# Altium footprint library SamacSys.PcbLib: 36 footprints (part 1 of 3)
Each footprint in its own frame and in the unit in brackets; x right, y up, seen from the top. Pads: shape width x height; smd on the part's side, far side on the other; paste and mask are expansions set on the pad; w line width, h text height; cw(c..) or ccw(c..) is an arc to the next point about the centre after c.
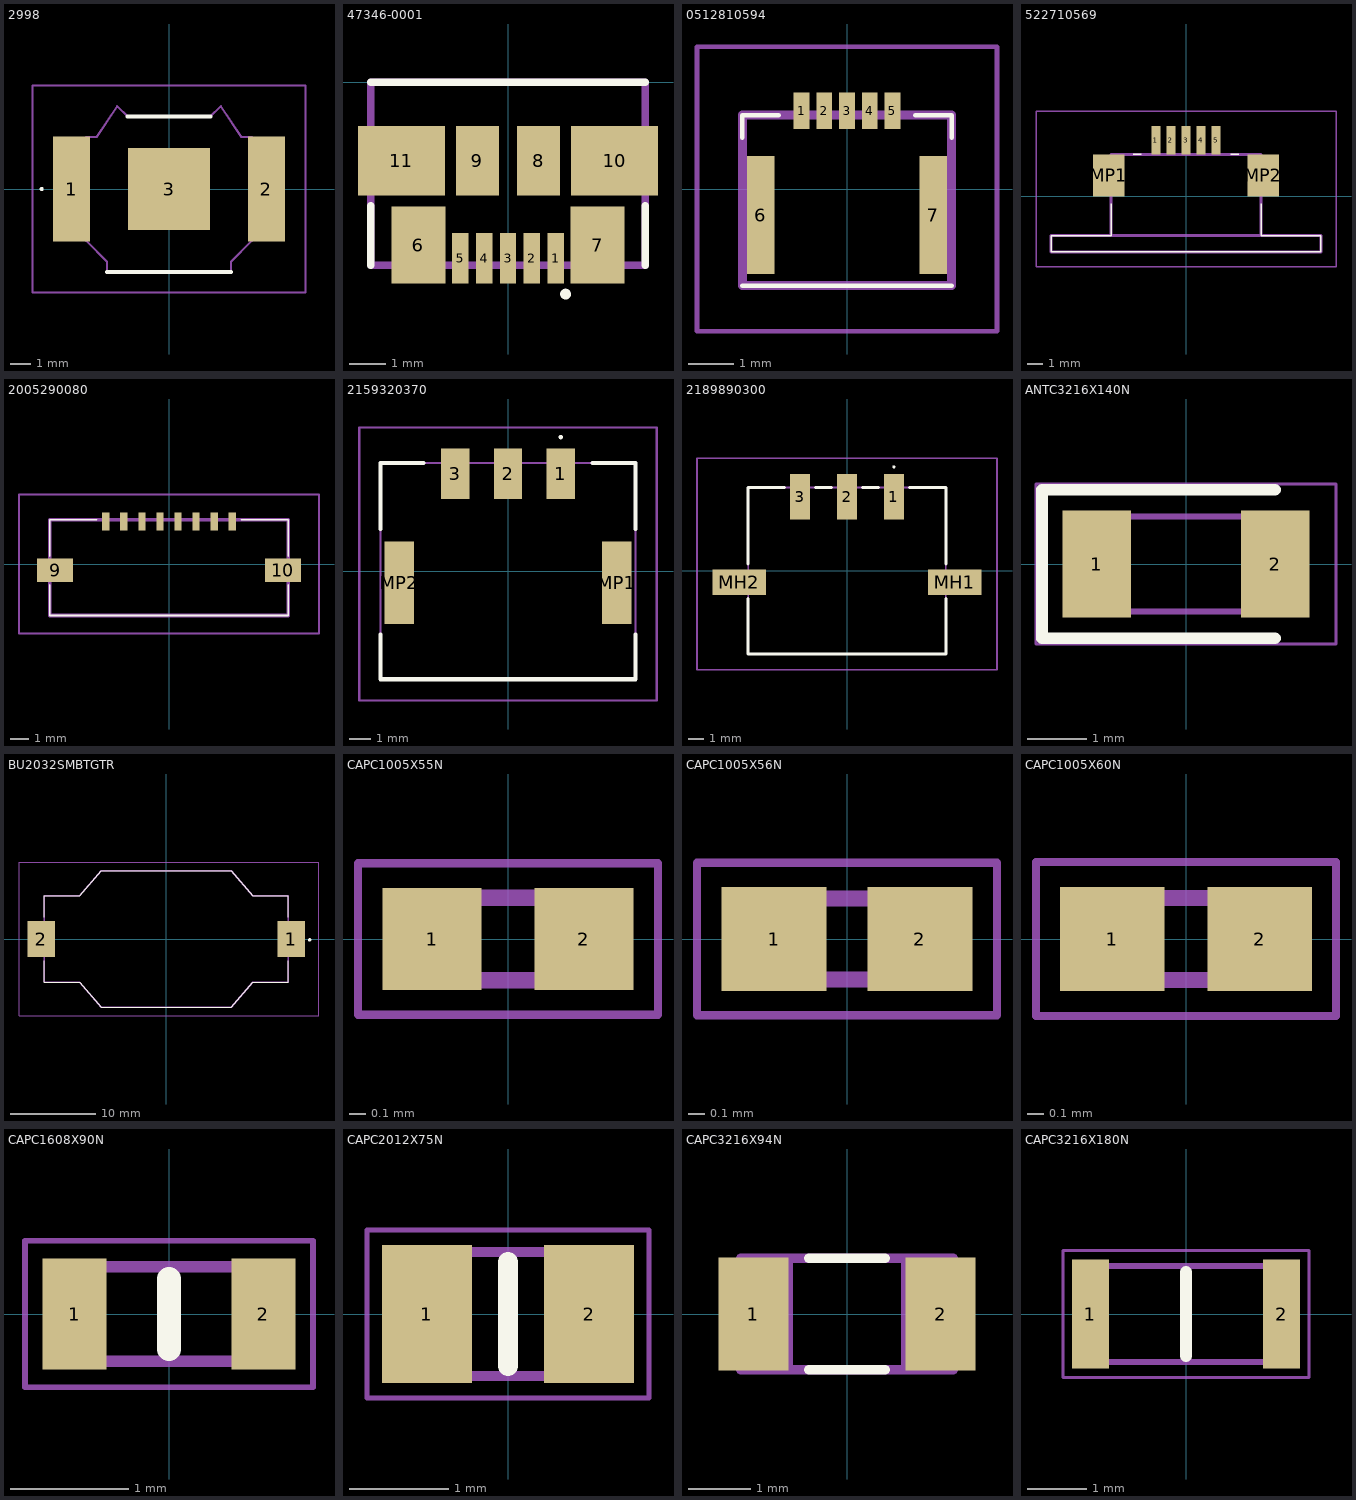
[diagram p0: the footprints below, top view; thin cyan lines are the x and y axes]

## 2998 [mm]
pads (3):
  rect 1.78x5.08 smd: 1(-4.7,0) 2(4.7,0)
  rect 3.96x3.96 smd: 3(0,0)
Top Overlay:
  lines w0.1: -6.2,0 cw(c-6.15,0) -6.1,0 cw(c-6.15,0) -6.2,0
  lines w0.2: -3,-4 3,-4 ; -2,3.5 2,3.5
Mechanical 13:
  lines w0.1: -4,-2.5 -3,-3.5 -3,-4 3,-4 3,-3.5 4,-2.5 4,2.5 3.5,2.5 2.5,4 2,3.5 -2,3.5 -2.5,4 -3.5,2.5 -4,2.5 -4,-2.5
Mechanical 15:
  lines w0.1: -6.59,-5 -6.59,5 6.59,5 6.59,-5 -6.59,-5
3D body "2998.stp": height 3.28, standoff 0, extent -5.412,-4 5.412,4

## 47346-0001 [mm]
pads (11):
  rect 0.45x1.38 smd: 1(1.3,-4.81) 2(0.65,-4.81) 3(0,-4.81) 4(-0.65,-4.81) 5(-1.3,-4.81)
  rect 1.475x2.1 smd: 6(-2.452,-4.45) 7(2.452,-4.45)
  rect 1.175x1.9 smd: 8(0.837,-2.15) 9(-0.837,-2.15)
  rect 2.375x1.9 smd: 10(2.913,-2.15) 11(-2.913,-2.15)
Top Overlay:
  circle w0.2: c1.572,-5.79 r0.046
  lines w0.2: -3.75,-5 -3.75,-3.373 ; -3.75,0 3.75,0 ; 3.75,-5 3.75,-3.373
Mechanical 13:
  lines w0.2: -3.75,-5 3.75,-5 3.75,0 -3.75,0 -3.75,-5
3D body "47346-0001.stp": height 2.7, standoff -0.24, extent -3.99,-5.38 3.99,0.05

## 0512810594 [mm]
pads (7):
  rect 0.35x0.8 smd: 1(-1,1.725) 2(-0.5,1.725) 3(0,1.725) 4(0.5,1.725) 5(1,1.725)
  rect 0.6x2.6 smd: 6(-1.9,-0.575) 7(1.9,-0.575)
Top Overlay:
  lines w0.1: -2.3,-2.125 2.3,-2.125 ; -2.3,1.125 -2.3,1.625 -1.5,1.625 ; 1.5,1.625 2.3,1.625 2.3,1.125
Mechanical 13:
  lines w0.2: -2.3,-2.125 2.3,-2.125 2.3,1.625 -2.3,1.625 -2.3,-2.125
Mechanical 15:
  lines w0.1: -3.3,-3.125 3.3,-3.125 3.3,3.125 -3.3,3.125 -3.3,-3.125
3D body "0512810594.stp": height 1.3, standoff 0, extent -2.3,-2.125 2.3,2.09

## 522710569 [mm]
pads (7):
  rect 0.6x1.9 smd: 1(-2,3.725) 2(-1,3.725) 3(0,3.725) 4(1,3.725) 5(2,3.725)
  rect 2.1x2.8 smd: MP1(-5.15,1.375) MP2(5.15,1.375)
Top Overlay:
  lines w0.1: -5,-0.5 -5,-2.5 -5,-2.625 -9,-2.625 -9,-3.725 9,-3.725 9,-2.625 5,-2.625 5,-0.5 ; -3.5,2.775 -3,2.775 ; 3,2.775 3.5,2.775
Mechanical 13:
  lines w0.2: -9,-3.725 -9,-2.625 9,-2.625 9,-3.725 -9,-3.725 ; -5,-2.625 -5,2.775 5,2.775 5,-2.625 -5,-2.625
Mechanical 15:
  lines w0.1: -10,-4.725 -10,5.675 10,5.675 10,-4.725 -10,-4.725
3D body "52271-0569.stp": height 3, standoff 0, extent -6,-3.22 6,4.18

## 2005290080 [mm]
pads (10):
  rect 0.4x1 smd: 1(-3.5,2.35) 2(-2.5,2.35) 3(-1.5,2.35) 4(-0.5,2.35) 5(0.5,2.35) 6(1.5,2.35) 7(2.5,2.35) 8(3.5,2.35)
  rect 2x1.3 smd: 9(-6.3,-0.35) 10(6.3,-0.35)
Top Overlay:
  lines w0.1: -6.6,-1.15 -6.6,-2.85 6.6,-2.85 6.6,-1.15 ; -6.6,0.45 -6.6,2.45 -4,2.45 ; 4,2.45 6.6,2.45 6.6,0.45
Mechanical 13:
  lines w0.2: -6.6,-2.85 -6.6,2.45 6.6,2.45 6.6,-2.85 -6.6,-2.85
Mechanical 15:
  lines w0.1: -8.3,-3.85 -8.3,3.85 8.3,3.85 8.3,-3.85 -8.3,-3.85
3D body "200528-0080.stp": height 1.96, standoff 0, extent -7,-2.65 7,2.65

## 2159320370 [mm]
pads (5):
  rect 1.35x2.38 smd: 1(2.5,4.615) 2(0,4.615) 3(-2.5,4.615)
  rect 1.4x3.92 smd: MP1(5.15,-0.555) MP2(-5.15,-0.555)
Top Overlay:
  lines w0.1: 2.5,6.3 cw(c2.5,6.35) 2.5,6.4 cw(c2.5,6.35) 2.5,6.3
  lines w0.2: -6.05,-3 -6.05,-5.125 6.05,-5.125 6.05,-3 ; -6.05,2 -6.05,5.125 -4,5.125 ; 4,5.125 6.05,5.125 6.05,2
Mechanical 13:
  lines w0.1: -6.05,-5.125 6.05,-5.125 6.05,5.125 -6.05,5.125 -6.05,-5.125
Mechanical 15:
  lines w0.1: -7.05,-6.125 7.05,-6.125 7.05,6.805 -7.05,6.805 -7.05,-6.125
3D body "215932-0370.stp": height 7.6, standoff 0, extent -6.05,-5.125 6.05,5.67

## 2189890300 [mm]
pads (5):
  rect 1.27x2.92 smd: 1(3,4.74) 2(0,4.74) 3(-3,4.74)
  rect 3.43x1.65 smd: MH1(6.885,-0.73) MH2(-6.885,-0.73)
Top Overlay:
  lines w0.1: 3,6.6 ccw(c3,6.65) 3,6.7 ccw(c3,6.65) 3,6.6
  lines w0.2: -6.325,-1.765 -6.325,-5.33 6.325,-5.33 6.325,-1.765 ; -6.325,0.435 -6.325,5.33 -4,5.33 ; -2,5.33 -1,5.33 ; 1,5.33 2,5.33 ; 4,5.33 6.325,5.33 6.325,0.435
Mechanical 13:
  lines w0.1: -6.325,-5.33 6.325,-5.33 6.325,5.33 -6.325,5.33 -6.325,-5.33
Mechanical 15:
  lines w0.1: -9.6,-6.33 9.6,-6.33 9.6,7.2 -9.6,7.2 -9.6,-6.33
3D body "2189890300.stp": height 6.22, standoff 0, extent -8.435,-5.33 8.435,6.073

## ANTC3216X140N [mm]
pads (2):
  rect 1.15x1.8 smd: 1(-1.5,0) 2(1.5,0)
Top Overlay:
  lines w0.2: 1.5,-1.25 -2.425,-1.25 -2.425,1.25 1.5,1.25
Mechanical 13:
  lines w0.1: -1.6,0.225 -1.025,0.8 ; -1.6,-0.8 -1.6,0.8 1.6,0.8 1.6,-0.8 -1.6,-0.8
Mechanical 15:
  lines w0.05: -2.525,-1.35 -2.525,1.35 2.525,1.35 2.525,-1.35 -2.525,-1.35
3D body "AMCA31-2R450G-S1F-T3.stp": height 1.4, standoff 0, extent -1.6,-0.8 1.6,0.8

## BU2032SMBTGTR [mm]
pads (2):
  rect 3.2x4.2 smd: 1(14.65,0) 2(-14.65,0)
Top Overlay:
  lines w0.1: -14.3,-2.54 -14.3,-5.08 -10.16,-5.08 -7.62,-8 7.62,-8 10.16,-5.08 14.3,-5.08 14.3,-2.54 ; -14.3,2.54 -14.3,5.08 -10.16,5.08 -7.62,8 7.62,8 10.16,5.08 14.3,5.08 14.3,2.54
  lines w0.2: 16.8,-0.2 cw(c16.8,-0.1) 16.8,0 cw(c16.8,-0.1) 16.8,-0.2
Mechanical 13:
  lines w0.2: -14.3,-5.08 -10.16,-5.08 -7.62,-8 7.62,-8 10.16,-5.08 14.3,-5.08 14.3,5.08 10.16,5.08 7.62,8 -7.62,8 -10.16,5.08 -14.3,5.08 -14.3,-5.08
Mechanical 15:
  lines w0.1: -17.25,-9 -17.25,9 17.9,9 17.9,-9 -17.25,-9
3D body "BU2032SM-BT-GTR.stp": height 4.9, standoff 0, extent -15.93,-8 15.93,8

## CAPC1005X55N [mm]
pads (2):
  rect 0.6x0.62 smd: 1(-0.46,0) 2(0.46,0)
Mechanical 13:
  lines w0.1: -0.5,-0.25 -0.5,0.25 0.5,0.25 0.5,-0.25 -0.5,-0.25
Mechanical 15:
  lines w0.05: -0.91,-0.46 -0.91,0.46 0.91,0.46 0.91,-0.46 -0.91,-0.46
3D body "CL05A104KA5NNNC.stp": height 0.55, standoff 0, extent -0.5,-0.25 0.5,0.25

## CAPC1005X56N [mm]
pads (2):
  rect 0.65x0.64 smd: 1(-0.45,0) 2(0.45,0)
Mechanical 13:
  lines w0.1: -0.5,-0.25 -0.5,0.25 0.5,0.25 0.5,-0.25 -0.5,-0.25
Mechanical 15:
  lines w0.05: -0.925,-0.47 -0.925,0.47 0.925,0.47 0.925,-0.47 -0.925,-0.47
3D body "04025A101JAT2A.stp": height 0.56, standoff 0, extent -0.5,-0.25 0.5,0.25

## CAPC1005X60N [mm]
pads (2):
  rect 0.65x0.65 smd: 1(-0.46,0) 2(0.46,0)
Mechanical 13:
  lines w0.1: -0.51,-0.255 -0.51,0.255 0.51,0.255 0.51,-0.255 -0.51,-0.255
Mechanical 15:
  lines w0.05: -0.935,-0.48 -0.935,0.48 0.935,0.48 0.935,-0.48 -0.935,-0.48
3D body "600L0R5AT200T.stp": height 0.6, standoff 0, extent -0.51,-0.255 0.51,0.255

## CAPC1608X90N [mm]
pads (2):
  rect 0.54x0.94 smd: 1(-0.8,0) 2(0.8,0)
Top Overlay:
  lines w0.2: 0,-0.3 0,0.3
Mechanical 13:
  lines w0.1: -0.8,-0.4 -0.8,0.4 0.8,0.4 0.8,-0.4 -0.8,-0.4
Mechanical 15:
  lines w0.05: -1.22,-0.62 -1.22,0.62 1.22,0.62 1.22,-0.62 -1.22,-0.62
3D body "CGA1A2X7R1H471K030BA.stp": height 0.9, standoff 0, extent -0.8,-0.4 0.8,0.4

## CAPC2012X75N [mm]
pads (2):
  rect 0.91x1.39 smd: 1(-0.82,0) 2(0.82,0)
Top Overlay:
  lines w0.2: 0,-0.525 0,0.525
Mechanical 13:
  lines w0.1: -1,-0.625 -1,0.625 1,0.625 1,-0.625 -1,-0.625
Mechanical 15:
  lines w0.05: -1.425,-0.85 -1.425,0.85 1.425,0.85 1.425,-0.85 -1.425,-0.85
3D body "CL21B103KBANNNC.stp": height 0.75, standoff 0, extent -1,-0.625 1,0.625

## CAPC3216X94N [mil]
pads (2):
  rect 44x71 smd: 1(-59,0) 2(59,0)
Top Overlay:
  lines w6: -24,-35 24,-35 ; -24,35 24,35
Mechanical 13:
  lines w6: -37,-35 -37,35 ; -37,-35 -67,-35 -67,35 -37,35 ; -37,-35 37,-35 ; -37,35 37,35 ; 37,-35 37,35 ; 37,-35 67,-35 67,35 37,35
3D body "12065C503JAT2A.stp": height 37.01, standoff 0, extent -62.99,-31.5 62.99,31.5

## CAPC3216X180N [mm]
pads (2):
  rect 0.62x1.82 smd: 1(-1.6,0) 2(1.6,0)
Top Overlay:
  lines w0.2: 0,-0.7 0,0.7
Mechanical 13:
  lines w0.1: -1.6,-0.8 -1.6,0.8 1.6,0.8 1.6,-0.8 -1.6,-0.8
Mechanical 15:
  lines w0.05: -2.06,-1.06 -2.06,1.06 2.06,1.06 2.06,-1.06 -2.06,-1.06
3D body "C3216X7R1H105K160AE.stp": height 1.6, standoff 0, extent -1.65,-0.8 1.55,0.8